# EAGLE library part DRV8848 (library Modulo)
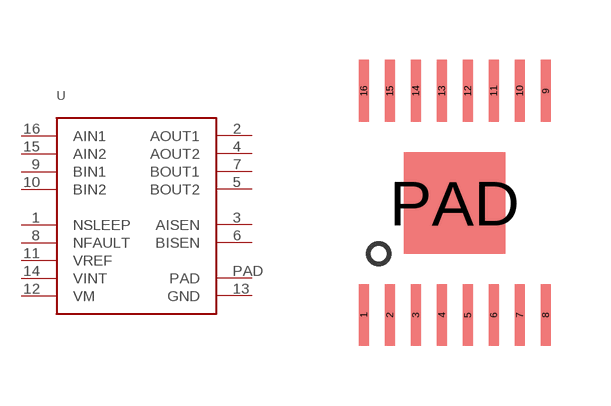
[diagram p15: symbol with the pads of HTSSOP-16; footprint HTSSOP-16]

Designator prefix U

## DRV8848 (PARTNUM: DRV8848PWP)  [HTSSOP-16]
1  NSLEEP
2  AOUT1
3  AISEN
4  AOUT2
5  BOUT2
6  BISEN
7  BOUT1
8  NFAULT
9  BIN1
10  BIN2
11  VREF
12  VM
13  GND
14  VINT
15  AIN2
16  AIN1
PAD  PAD

## Footprint HTSSOP-16 (pad centres in mm)
smd 0.25 x 1.55: 1 -2.275,-2.8; 2 -1.625,-2.8; 3 -0.975,-2.8; 4 -0.325,-2.8; 5 0.325,-2.8; 6 0.975,-2.8; 7 1.625,-2.8; 8 2.275,-2.8; 9 2.275,2.8; 10 1.625,2.8; 11 0.975,2.8; 12 0.325,2.8; 13 -0.325,2.8; 14 -0.975,2.8; 15 -1.625,2.8; 16 -2.275,2.8
smd 2.54 x 2.54: PAD 0,0